# EAGLE library part XTR110A (library burr-brown)
Precision Voltage-To-Current Converter/Transmitter
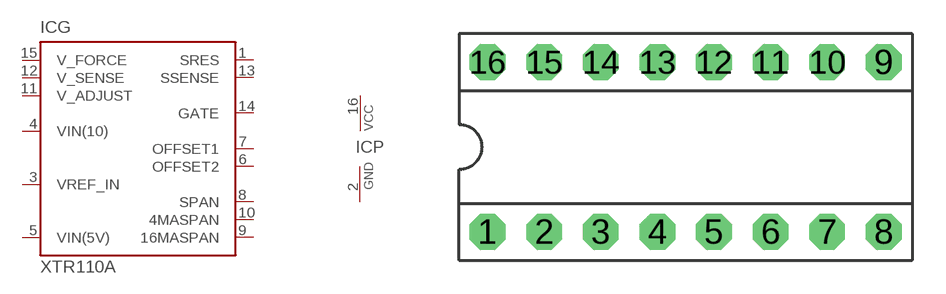
[diagram p277: symbol with the pads of DIP-16; footprint DIP-16]

Designator prefix IC; gates G=XTR110A P=PWRN

## XTR110A  [DIP-16]
1  G:SRES  pas
2  P:GND  pwr
3  G:VREF_IN  pas
4  G:VIN(10)  pas
5  G:VIN(5V)  pas
6  G:OFFSET2  pas
7  G:OFFSET1  pas
8  G:SPAN  pas
9  G:16MASPAN  pas
10  G:4MASPAN  pas
11  G:V_ADJUST  pas
12  G:V_SENSE  pas
13  G:SSENSE  pas
14  G:GATE  pas
15  G:V_FORCE  pas
16  P:VCC  pwr

## Footprint DIP-16 (pad centres in mm)
drill 0.813 pad 1.6 octagon: 1 -8.89,-3.81; 2 -6.35,-3.81; 3 -3.81,-3.81; 4 -1.27,-3.81; 5 1.27,-3.81; 6 3.81,-3.81; 7 6.35,-3.81; 8 8.89,-3.81; 9 8.89,3.81; 10 6.35,3.81; 11 3.81,3.81; 12 1.27,3.81; 13 -1.27,3.81; 14 -3.81,3.81; 15 -6.35,3.81; 16 -8.89,3.81